# Altium footprint library LM34-A3S-PI-N.PcbLib: 1 footprints
Each footprint in its own frame and in the unit in brackets; x right, y up, seen from the top. Pads: shape width x height; smd on the part's side, far side on the other; paste and mask are expansions set on the pad; w line width, h text height; cw(c..) or ccw(c..) is an arc to the next point about the centre after c.
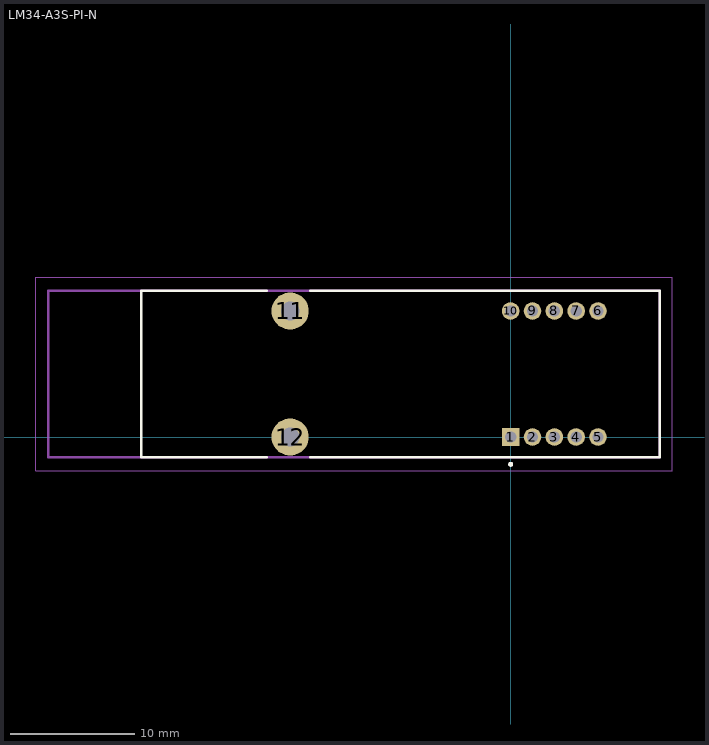
[diagram p0: the footprint, top view; thin cyan lines are the x and y axes]

## LM34-A3S-PI-N [mm]
pads (12):
  rect 1.416x1.416 hole 0.91: 1(0,0)
  round 1.416 hole 0.91: 2(1.76,0) 3(3.52,0) 4(5.28,0) 5(7.04,0) 6(7.04,10.16) 7(5.28,10.16) 8(3.52,10.16) 9(1.76,10.16) 10(0,10.16)
  round 3 hole 1.5: 11(-17.78,10.16) 12(-17.78,0)
Top Overlay:
  lines w0.2: -19.68,-1.65 -29.8,-1.65 -29.8,11.81 -19.68,11.81 ; -16.16,-1.65 12,-1.65 12,11.81 -16.16,11.81 ; -0.1,-2.2 ccw(c0,-2.2) 0.1,-2.2 ccw(c0,-2.2) -0.1,-2.2
TopAssy:
  lines w0.2: -37.28,-1.65 12.02,-1.65 12.02,11.81 -37.28,11.81 -37.28,-1.65
Mechanical 15:
  lines w0.1: -38.28,-2.71 13.02,-2.71 13.02,12.87 -38.28,12.87 -38.28,-2.71
3D body "FTLF8519F2GTL.stp": height 9.56, standoff -5, extent -37.28,-1.65 12.02,11.81